# EAGLE library part PCA9622 (library DashboardParts)
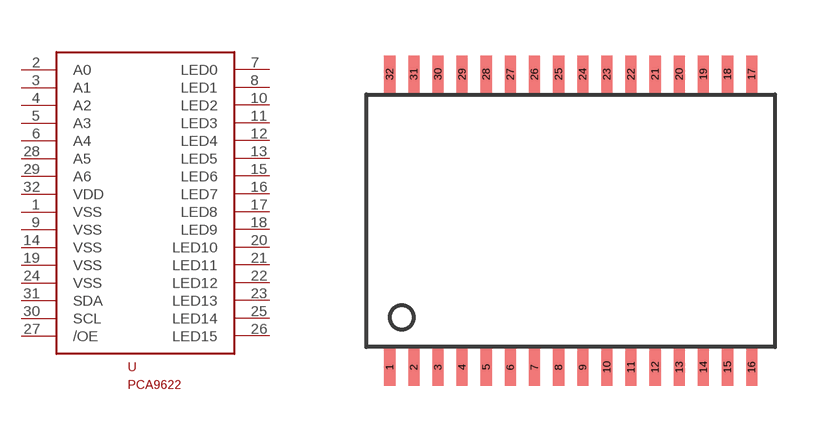
[diagram p0: symbol with the pads of HTSSOP32DAP; footprint HTSSOP32DAP]

Designator prefix -

## PCA9622  [HTSSOP32DAP]
1  VSS  pwr
2  A0  in
3  A1  in
4  A2  in
5  A3  in
6  A4  in
7  LED0
8  LED1
9  VSS  pwr
10  LED2
11  LED3
12  LED4
13  LED5
14  VSS  pwr
15  LED6
16  LED7
17  LED8
18  LED9
19  VSS  pwr
20  LED10
21  LED11
22  LED12
23  LED13
24  VSS  pwr
25  LED14
26  LED15
27  /OE  in
28  A5  in
29  A6  in
30  SCL  in
31  SDA  in
32  VDD  pwr

## Footprint HTSSOP32DAP (pad centres in mm)
PowerPAD(TM) PLASTIC SMALL-OUTLINE PACKAGE DAP (R-PDSO-G**) Source: http://focus.ti.com/lit/ml/mpds029b/mpds029b.pdf / slma002.pdf
smd 0.3 x 1: 1 -4.875,-3.95; 2 -4.225,-3.95; 3 -3.575,-3.95; 4 -2.925,-3.95; 5 -2.275,-3.95; 6 -1.625,-3.95; 7 -0.975,-3.95; 8 -0.325,-3.95; 9 0.325,-3.95; 10 0.975,-3.95; 11 1.625,-3.95; 12 2.275,-3.95; 13 2.925,-3.95; 14 3.575,-3.95; 15 4.225,-3.95; 16 4.875,-3.95; 17 4.875,3.95; 18 4.225,3.95; 19 3.575,3.95; 20 2.925,3.95; 21 2.275,3.95; 22 1.625,3.95; 23 0.975,3.95; 24 0.325,3.95; 25 -0.325,3.95; 26 -0.975,3.95; 27 -1.625,3.95; 28 -2.275,3.95; 29 -2.925,3.95; 30 -3.575,3.95; 31 -4.225,3.95; 32 -4.875,3.95